# EAGLE library part LT3751 (library di_ic)
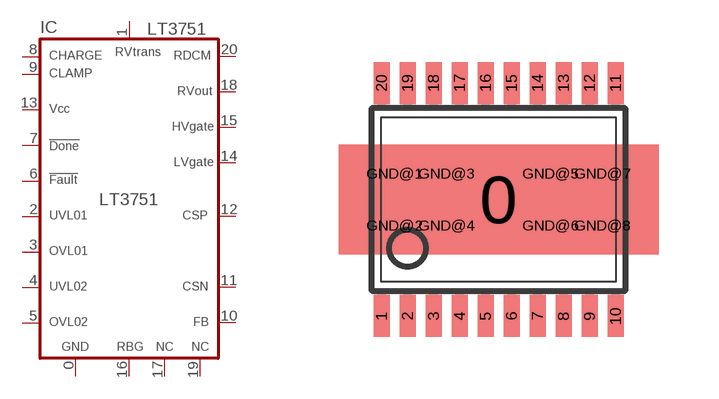
[diagram p18: symbol with the pads of TSSOP20T; footprint TSSOP20T]

Designator prefix IC

## LT3751  [TSSOP20T]
0  GND  sup
1  RVTRANS
2  UVL01  pas
3  OVL01  pas
4  UVL02  pas
5  OVL02  pas
6  FAULT  out
7  DONE  out
8  CHARGE  in
9  CLAMP  in
10  FB  pas
11  CSN  pas
12  CSP  pas
13  VCC  pwr
14  LVGATE  pas
15  HVGATE  pas
16  RBG  pas
17  NC  pas
18  RVOUT  pas
19  NC  pas
20  RDCM  pas

## Footprint TSSOP20T (pad centres in mm)
smd 8 x 2.74: 0 0,0
smd 0.4 x 1.05: 1 -2.925,-2.918; 2 -2.275,-2.918; 3 -1.625,-2.918; 4 -0.975,-2.918; 5 -0.325,-2.918; 6 0.325,-2.918; 7 0.975,-2.918; 8 1.625,-2.918; 9 2.275,-2.918; 10 2.925,-2.918; 11 2.925,2.918; 12 2.275,2.918; 13 1.625,2.918; 14 0.975,2.918; 15 0.325,2.918; 16 -0.325,2.918; 17 -0.975,2.918; 18 -1.625,2.918; 19 -2.275,2.918; 20 -2.925,2.918
drill 0.5: GND@1 -2.6,0.65; GND@2 -2.6,-0.65; GND@3 -1.3,0.65; GND@4 -1.3,-0.65; GND@5 1.3,0.65; GND@6 1.3,-0.65; GND@7 2.6,0.65; GND@8 2.6,-0.65